# Altium footprint library SamacSys.PcbLib: 59 footprints (part 4 of 4)
Each footprint in its own frame and in the unit in brackets; x right, y up, seen from the top. Pads: shape width x height; smd on the part's side, far side on the other; paste and mask are expansions set on the pad; w line width, h text height; cw(c..) or ccw(c..) is an arc to the next point about the centre after c.
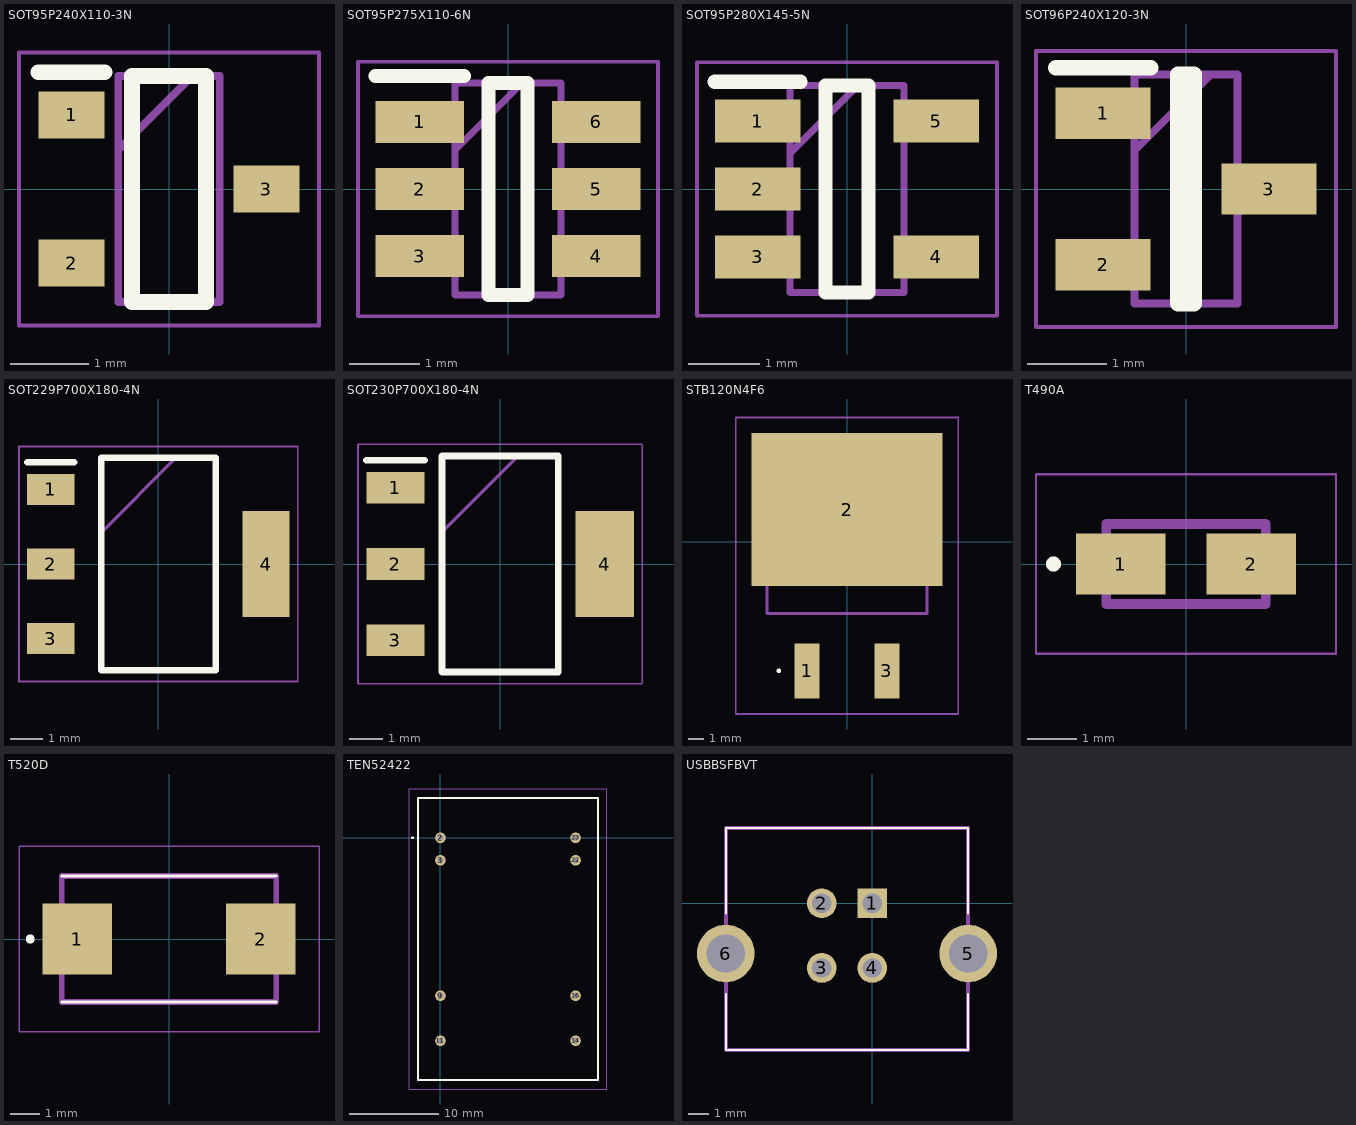
[diagram p3: the footprints below, top view; thin cyan lines are the x and y axes]

## SOT95P240X110-3N [mm]
pads (3):
  rect 0.85x0.6 smd: 1(-1.25,0.95) 2(-1.25,-0.95) 3(1.25,0)
Top Overlay:
  lines w0.2: -1.675,1.5 -0.825,1.5 ; -0.475,-1.45 -0.475,1.45 0.475,1.45 0.475,-1.45 -0.475,-1.45
Mechanical 13:
  lines w0.1: -0.65,0.5 0.3,1.45 ; -0.65,-1.45 -0.65,1.45 0.65,1.45 0.65,-1.45 -0.65,-1.45
Mechanical 15:
  lines w0.05: -1.925,-1.75 -1.925,1.75 1.925,1.75 1.925,-1.75 -1.925,-1.75
3D body "BAS16.stp": height 1.1, standoff 0, extent -1.2,-1.45 1.2,1.45

## SOT95P275X110-6N [mm]
pads (6):
  rect 1.25x0.6 smd: 1(-1.25,0.95) 2(-1.25,0) 3(-1.25,-0.95) 4(1.25,-0.95) 5(1.25,0) 6(1.25,0.95)
Top Overlay:
  lines w0.2: -1.875,1.6 -0.625,1.6 ; -0.275,-1.5 -0.275,1.5 0.275,1.5 0.275,-1.5 -0.275,-1.5
Mechanical 13:
  lines w0.1: -0.75,0.55 0.2,1.5 ; -0.75,-1.5 -0.75,1.5 0.75,1.5 0.75,-1.5 -0.75,-1.5
Mechanical 15:
  lines w0.05: -2.125,-1.8 -2.125,1.8 2.125,1.8 2.125,-1.8 -2.125,-1.8
3D body "STF202-22T1G.stp": height 1.1, standoff 0, extent -1.375,-1.5 1.375,1.5

## SOT95P280X145-5N [mm]
pads (5):
  rect 1.2x0.6 smd: 1(-1.25,0.95) 2(-1.25,0) 3(-1.25,-0.95) 4(1.25,-0.95) 5(1.25,0.95)
Top Overlay:
  lines w0.2: -1.85,1.5 -0.65,1.5 ; -0.3,-1.45 -0.3,1.45 0.3,1.45 0.3,-1.45 -0.3,-1.45
Mechanical 13:
  lines w0.1: -0.8,0.5 0.15,1.45 ; -0.8,-1.45 -0.8,1.45 0.8,1.45 0.8,-1.45 -0.8,-1.45
Mechanical 15:
  lines w0.05: -2.1,-1.775 -2.1,1.775 2.1,1.775 2.1,-1.775 -2.1,-1.775
3D body "TPS60403DBVR.stp": height 1.45, standoff 0, extent -1.4,-1.45 1.4,1.45

## SOT96P240X120-3N [mm]
pads (3):
  rect 1.2x0.65 smd: 1(-1.05,0.96) 2(-1.05,-0.96) 3(1.05,0)
Top Overlay:
  lines w0.2: -1.65,1.535 -0.45,1.535 ; -0.1,-1.45 0.1,-1.45 0.1,1.45 -0.1,1.45 -0.1,-1.45
Mechanical 13:
  lines w0.1: -0.65,0.49 0.31,1.45 ; -0.65,-1.45 0.65,-1.45 0.65,1.45 -0.65,1.45 -0.65,-1.45
Mechanical 15:
  lines w0.05: -1.9,-1.75 1.9,-1.75 1.9,1.75 -1.9,1.75 -1.9,-1.75
3D body "AZ23C3V3-7-F.stp": height 1.2, standoff 0, extent -1.2,-1.45 1.2,1.45

## SOT229P700X180-4N [mm]
pads (4):
  rect 1.45x0.95 smd: 1(-3.3,2.29) 2(-3.3,0) 3(-3.3,-2.29)
  rect 1.45x3.25 smd: 4(3.3,0)
Top Overlay:
  lines w0.2: -4.025,3.115 -2.575,3.115 ; -1.752,-3.252 -1.752,3.252 1.752,3.252 1.752,-3.252 -1.752,-3.252
Mechanical 13:
  lines w0.1: -1.752,0.962 0.538,3.252 ; -1.752,-3.252 -1.752,3.252 1.752,3.252 1.752,-3.252 -1.752,-3.252
Mechanical 15:
  lines w0.05: -4.275,-3.605 -4.275,3.605 4.275,3.605 4.275,-3.605 -4.275,-3.605
3D body "AMS1117-3.3.stp": height 1.8, standoff 0, extent -3.355,-3.15 3.355,3.15

## SOT230P700X180-4N [mm]
pads (4):
  rect 1.75x0.95 smd: 1(-3.15,2.3) 2(-3.15,0) 3(-3.15,-2.3)
  rect 1.75x3.2 smd: 4(3.15,0)
Top Overlay:
  lines w0.2: -4.025,3.125 -2.275,3.125 ; -1.75,-3.25 -1.75,3.25 1.75,3.25 1.75,-3.25 -1.75,-3.25
Mechanical 13:
  lines w0.1: -1.75,0.95 0.55,3.25 ; -1.75,-3.25 -1.75,3.25 1.75,3.25 1.75,-3.25 -1.75,-3.25
Mechanical 15:
  lines w0.05: -4.275,-3.6 -4.275,3.6 4.275,3.6 4.275,-3.6 -4.275,-3.6
3D body "LM317AEMP.stp": height 1.68, standoff 0, extent -3.5,-3.25 3.5,3.25

## STB120N4F6 [mm]
pads (3):
  rect 1.6x3.5 smd: 1(-2.54,-8.24) 3(2.54,-8.24)
  rect 12.2x9.75 smd: 2(0,2.035)
Top Overlay:
  lines w0.2: -4.4,-8.24 ccw(c-4.35,-8.24) -4.3,-8.24 ; -4.4,-8.24 cw(c-4.35,-8.24) -4.3,-8.24 ; -4.4,-8.24 ccw(c-4.35,-8.24) -4.3,-8.24
Mechanical 13:
  lines w0.2: -5.1,-4.575 -5.1,4.575 5.1,4.575 5.1,-4.575 -5.1,-4.575
Mechanical 15:
  lines w0.1: -7.1,-10.99 -7.1,7.91 7.1,7.91 7.1,-10.99 -7.1,-10.99
3D body "LM317D2T-TR.stp": height 4.6, standoff -0.05, extent -5.194,-8.103 5.194,5.375

## T490A [mm]
pads (2):
  rect 1.8x1.23 smd: 1(-1.31,0) 2(1.31,0)
Top Overlay:
  circle w0.2: c-2.66,0 r0.05
Mechanical 13:
  lines w0.2: -1.6,-0.8 -1.6,0.8 1.6,0.8 1.6,-0.8 -1.6,-0.8
Mechanical 15:
  lines w0.05: -3.01,-1.8 -3.01,1.8 3.01,1.8 3.01,-1.8 -3.01,-1.8
3D body "T490A107M004ATE500.stp": height 0, standoff -1.8, extent -0.13,0 3.27,1.805

## T520D [mm]
pads (2):
  rect 2.37x2.43 smd: 1(-3.12,0) 2(3.12,0)
Top Overlay:
  circle w0.2: c-4.72,0 r0.05
  lines w0.1: -3.65,-2.15 3.65,-2.15 ; -3.65,2.15 3.65,2.15
Mechanical 13:
  lines w0.2: -3.65,-2.15 -3.65,2.15 3.65,2.15 3.65,-2.15 -3.65,-2.15
Mechanical 15:
  lines w0.05: -5.105,-3.15 -5.105,3.15 5.105,3.15 5.105,-3.15 -5.105,-3.15
3D body "T520D687M003AME040.stp": height 3.1, standoff 0, extent -3.794,-2.345 3.806,2.255

## TEN52422 [mm]
pads (8):
  round 1.2 hole 0.7: 2(0,0) 3(0,-2.54) 9(0,-17.78) 11(0,-22.86) 14(15.22,-22.86) 16(15.22,-17.78) 22(15.22,-2.54) 23(15.22,0)
Top Overlay:
  lines w0.2: -3.2,0 cw(c-3.15,0) -3.1,0 ; -3.2,0 ccw(c-3.15,0) -3.1,0 ; -3.2,0 -3.1,0 ; -2.54,-27.3 -2.54,4.5 17.76,4.5 17.76,-27.3 -2.54,-27.3
Mechanical 13:
  lines w0.1: -2.54,-27.3 -2.54,4.5 17.76,4.5 17.76,-27.3 -2.54,-27.3
Mechanical 15:
  lines w0.1: -3.54,-28.3 18.76,-28.3 18.76,5.5 -3.54,5.5 -3.54,-28.3
3D body "TEN_5-2421.stp": height 10.88, standoff -3.42, extent -2.55,-27.27 17.77,4.48

## USBBSFBVT [mm]
pads (6):
  rect 1.478x1.478 hole 0.95: 1(0,0)
  round 1.478 hole 0.95: 2(-2.5,0) 3(-2.5,-3.2) 4(0,-3.2)
  round 2.85 hole 1.9: 5(4.75,-2.49) 6(-7.25,-2.49)
Top Overlay:
  lines w0.1: -7.25,-7.27 -7.25,-4.5 -7.25,-7.27 ; -7.25,-7.27 4.75,-7.27 -7.25,-7.27 ; -7.25,3.73 4.75,3.73 ; -7.25,3.73 4.75,3.73 ; -7.25,3.73 -7.25,-0.5 -7.25,3.73 ; 4.75,3.73 4.75,-0.5 4.75,3.73 ; 4.75,-7.25 4.75,-4.5 4.75,-7.25
Mechanical 13:
  lines w0.2: -7.25,-7.27 -7.25,3.73 4.75,3.73 4.75,-7.27 -7.25,-7.27
3D body "USB-B-S-F-B-VT.stp": height 16.1, standoff -5, extent -8.093,-7.27 5.6,3.73